# EAGLE library part ACS712 (library custom)
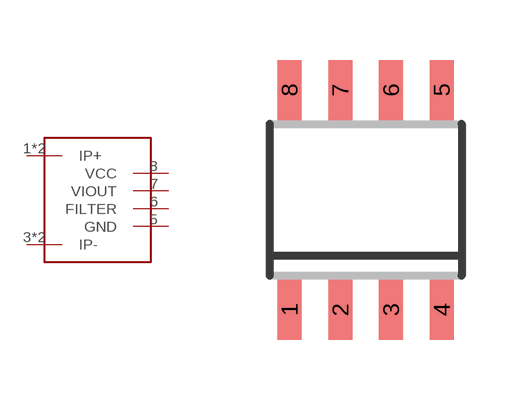
[diagram p3: symbol with the pads of SOIC8; footprint SOIC8]

Designator prefix -

## ACS712  [SOIC8]
1  IP+
2  IP+
3  IP-
4  IP-
5  GND  pwr
6  FILTER  sup
7  VIOUT  out
8  VCC  pwr

## Footprint SOIC8 (pad centres in mm)
smd 0.6 x 1.5: 1 -1.905,-2.75; 2 -0.635,-2.75; 3 0.635,-2.75; 4 1.905,-2.75; 5 1.905,2.75; 6 0.635,2.75; 7 -0.635,2.75; 8 -1.905,2.75